# Altium footprint library PcbLib1.PcbLib: 4 footprints
Each footprint in its own frame and in the unit in brackets; x right, y up, seen from the top. Pads: shape width x height; smd on the part's side, far side on the other; paste and mask are expansions set on the pad; w line width, h text height; cw(c..) or ccw(c..) is an arc to the next point about the centre after c.
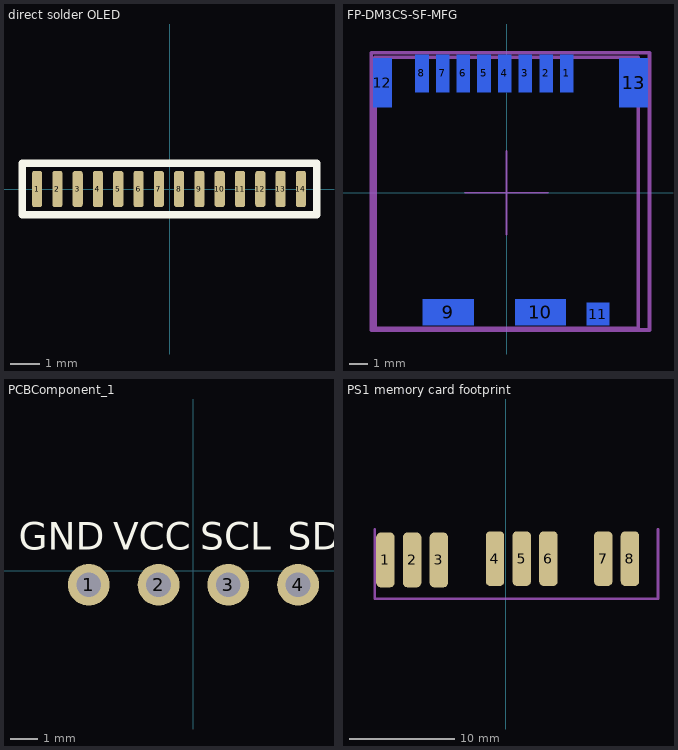
[diagram p0: the footprints below, top view; thin cyan lines are the x and y axes]

## direct solder OLED [mm]
pads (14):
  rrect50% 0.35x1.25 smd: 1(-4.572,0) 2(-3.872,0) 3(-3.172,0) 4(-2.472,0) 5(-1.772,0) 6(-1.072,0) 7(-0.372,0) 8(0.328,0) 9(1.028,0) 10(1.728,0) 11(2.428,0) 12(3.128,0) 13(3.828,0) 14(4.528,0)
Top Layer:
  text "14" at 4.545,1.243 h0.5
  text "1" at -4.599,1.243 h0.5
Top Overlay:
  lines w0.254: -5.08,-0.889 5.08,-0.889 5.08,0.889 -5.08,0.889 -5.08,-0.889

## FP-DM3CS-SF-MFG [mm]
pads (13):
  rect 0.7x2 smd far side paste+0 mask+0: 1(3.2,6.35) 2(2.1,6.35) 3(1,6.35) 4(-0.1,6.35) 5(-1.2,6.35) 6(-2.3,6.35) 7(-3.4,6.35) 8(-4.5,6.35)
  rect 2.7x1.4 smd far side paste+0 mask+0: 9(-3.1,-6.35) 10(1.8,-6.35)
  rect 1.2x1.2 smd far side paste+0 mask+0: 11(4.85,-6.45)
  rect 1x2.6 smd far side paste+0 mask+0: 12(-6.6,5.85)
  rect 1.5x2.6 smd far side paste+0 mask+0: 13(6.75,5.85)
Bottom Overlay:
  circle w0.25: c3.2,7.975 r0.125
  lines w0.2: -7,4.175 -7,-7.2 -4.825,-7.2 ; -5.725,7.2 -5.225,7.2 ; -1.375,-7.2 0.075,-7.2 ; 3.525,-7.2 3.875,-7.2 ; 3.925,7.2 5.625,7.2 ; 5.825,-7.2 7,-7.2 7,4.175
Bottom Assembly:
  lines w0.2: -7.2,-7.3 -7.2,7.45 7.6,7.45 7.6,-7.3 -7.2,-7.3
  text ".Designator" at 0.446,-1.02 h1
Bottom Courtyard:
  lines w0.2: -7.2,-7.3 -7.2,7.45 7.6,7.45 7.6,-7.3 -7.2,-7.3
Bottom 3D Body:
  lines w0.2: -7,-7.2 -7,7.2 7,7.2 7,-7.2 -7,-7.2
Bottom Component Center:
  lines w0.1: -2.213,0 2.213,0 ; 0,-2.213 0,2.213
3D body "Conn_HIROSE_DM3CS-SF_eec.STEP": height 2.13, standoff 0, extent -6.9,-7.05 6.9,7.05

## PCBComponent_1 [mil]
pads (4):
  round 60 hole 35.43: 1(-150,-20) 2(-50,-20) 3(50,-20) 4(150,-20)
Top Overlay:
  text "SDA" at 135,30 h39.37
  text "SCL" at 10,30 h39.37
  text "VCC" at -115,30 h39.37
  text "GND" at -250,30 h39.37
3D body "OLED-128x64-0.96.step": height 126.88, standoff -300.12, extent -525.59,-1026.85 525.59,70

## PS1 memory card footprint [mil]
pads (8):
  rrect50% 69x205 smd: 1(-450,-795) 2(-350,-795) 3(-250,-795) 4(-40,-790) 5(60,-790) 6(160,-790) 7(365,-790) 8(465,-790)
Mechanical 1:
  lines w10: -490,-680 -490,-940 570,-940 570,-680